# Altium schematic symbol library LaserPCB.SCHLIB: 75 symbols
Pins are listed as number, name and electrical type; pins without a type are passive.

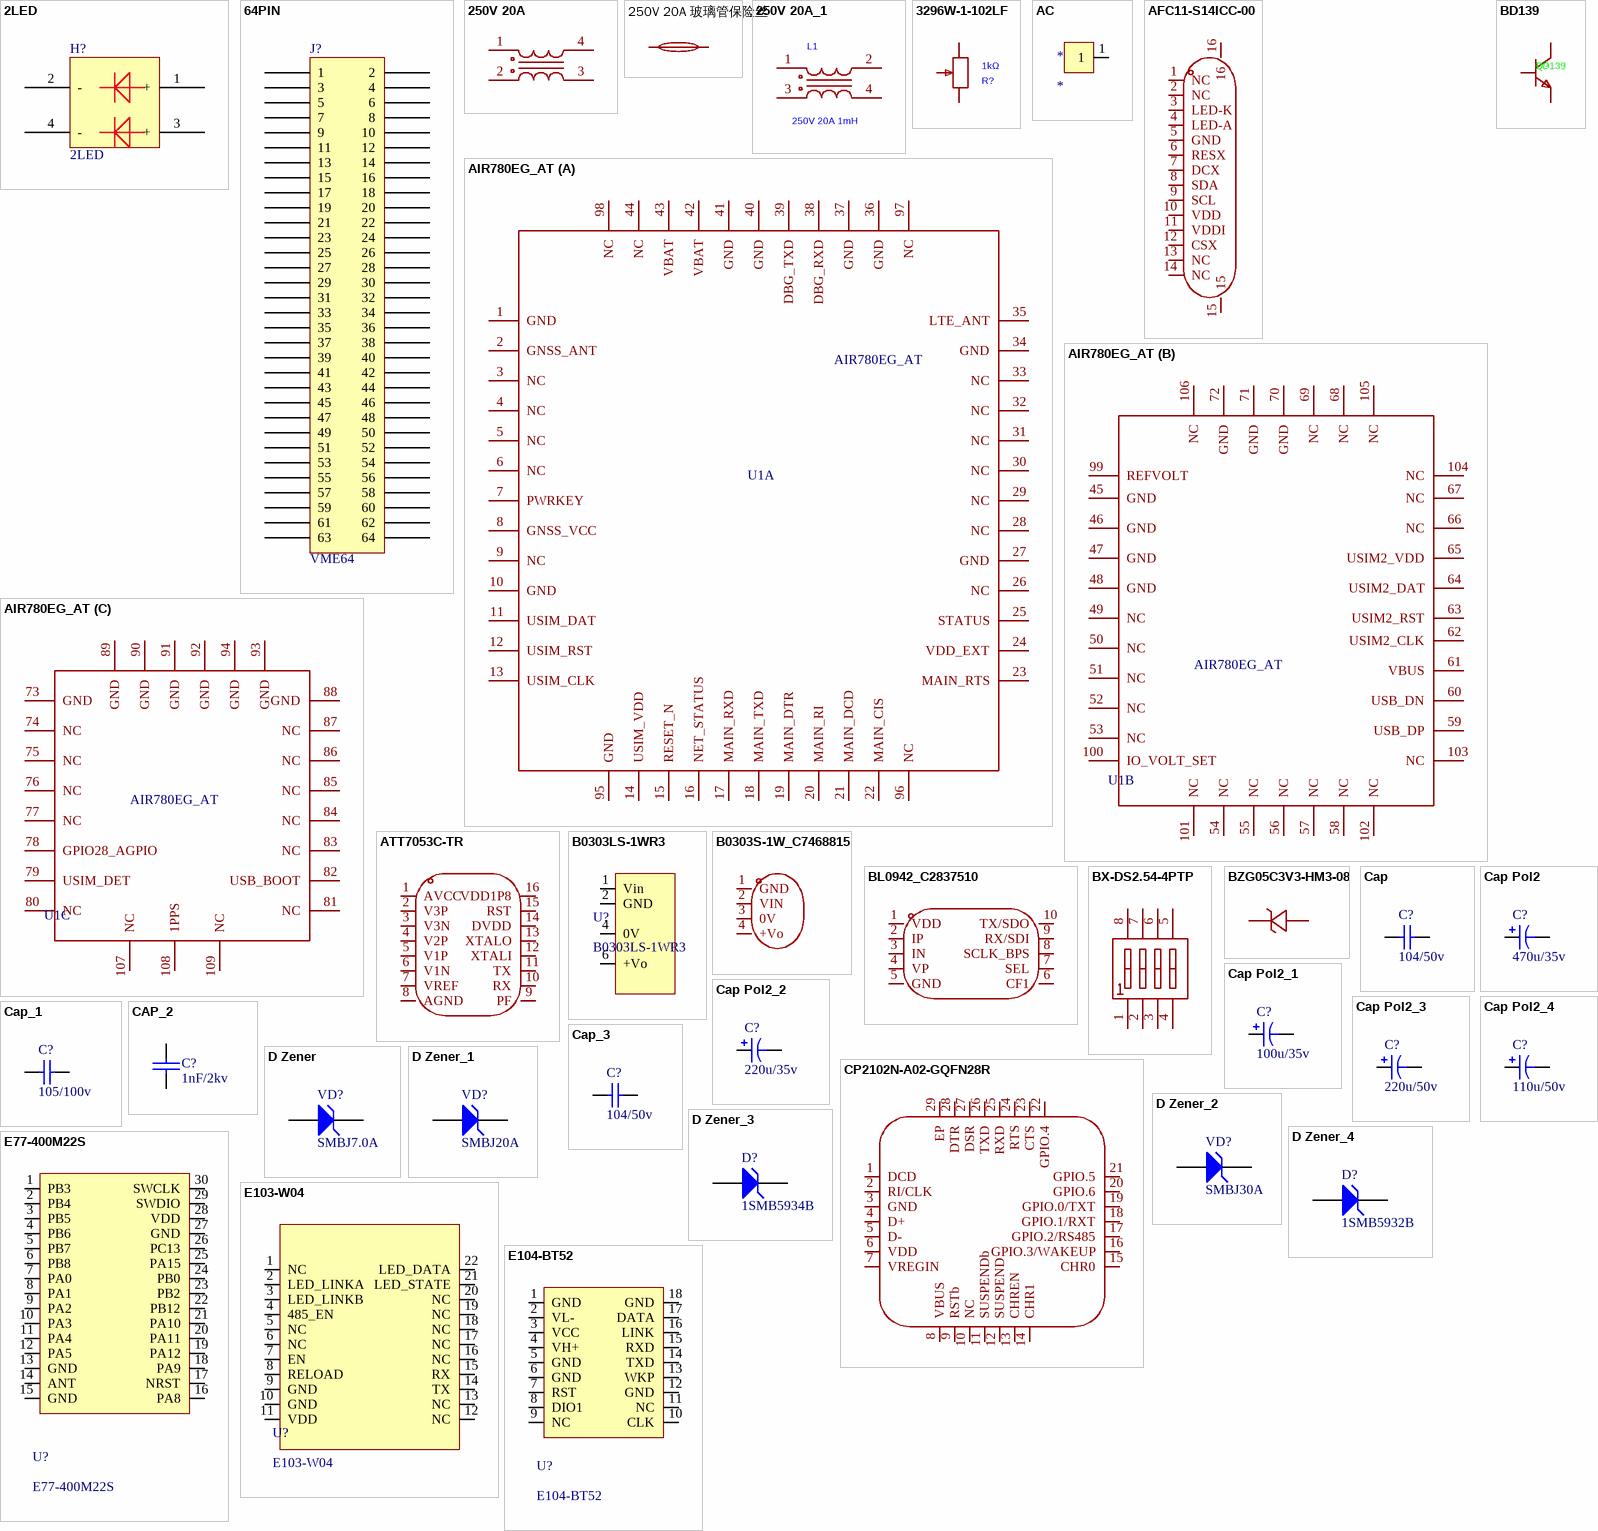
[diagram p0: symbols 2LED to E104-BT52]

## 2LED
designator H?
footprint 2LED
pins: 1 +, 2 -, 3 +, 4 -

## 64PIN
designator J?, comment VME64
footprint 9001-32641C
footprint 9001-32641C
pins: 1, 2, 3, 4, 5, 6, 7, 8, 9, 10, 11, 12, 13, 14, 15, 16, 17, 18, 19, 20, 21, 22, 23, 24, 25, 26, 27, 28, 29, 30, 31, 32, 33, 34, 35, 36, 37, 38, 39, 40, 41, 42, 43, 44, 45, 46, 47, 48, 49, 50, 51, 52, 53, 54, 55, 56, 57, 58, 59, 60, 61, 62, 63, 64
2 alternate drawings of the same symbol

## 250V 20A
designator L?, comment 250V 20A 1mH  (value not drawn)
Manufacturer: SXN(顺翔诺); Symbol: SMCM7060-102T; Add into BOM: yes; Number of Lines: 2; Current Rating: 3A; Voltage Rating - DC: 125V; Impedance @ Frequency: 1.02kΩ; DC Resistance(DCR): 17mΩ; Device: SMCM7060-102T; LCSC Part Name: 两路 贴片共模滤波器 阻抗1.02kΩ@100MHz; Supplier Part: C381615; Manufacturer Part: SMCM7060-102T; Supplier Footprint: SMD,7x6mm; JLCPCB Part Class: Extended Part; Datasheet: https://atta.szlcsc.com/upload/public/pdf/source/20210810/7E4749E6D81F48CB84A49D0AD88B3955.pdf; Supplier: LCSC; Convert to PCB: yes; Operating Temperature: -40℃~+125℃
footprint FILTER-SMD_4P-L7.0-W6.0-TL_SMCM7060
3D model FILTER-SMD_4P-L7.0-W6.0-H3.5
pins: 1, 2, 3, 4

## 250V 20A 玻璃管保险丝
designator F?  (value not drawn)
Manufacturer: xcfuse(旭程); Symbol: 250V 20A Glass tube fuse; Add into BOM: yes; Device: 250V 20A 玻璃管保险丝; LCSC Part Name: 玻璃管保险丝; Supplier Part: C13567; Manufacturer Part: 250V 20A 玻璃管保险丝; Supplier Footprint: D5.2xL20mm; JLCPCB Part Class: Extended Part; Datasheet: https://atta.szlcsc.com/upload/public/pdf/source/20210128/C2689798_830C652F57A356A8294054B84813D395.pdf; Supplier: LCSC; Convert to PCB: yes; Type: 玻璃管保险丝; Current Rating: 20A
footprint FUSE-SMD_5-20MM
3D model FUSE-SMD_D5.0-L20.0
pins: 1, 2

## 250V 20A_1
designator L1, comment 250V 20A 1mH
Manufacturer: SXN(顺翔诺); Symbol: SMCM7060-102T; Add into BOM: yes; Number of Lines: 2; Current Rating: 3A; Voltage Rating - DC: 125V; Impedance @ Frequency: 1.02kΩ; DC Resistance(DCR): 17mΩ; Device: SMCM7060-102T; LCSC Part Name: 两路 贴片共模滤波器 阻抗1.02kΩ@100MHz; Supplier Part: C381615; Manufacturer Part: SMCM7060-102T; Supplier Footprint: SMD,7x6mm; JLCPCB Part Class: Extended Part; Datasheet: https://atta.szlcsc.com/upload/public/pdf/source/20210810/7E4749E6D81F48CB84A49D0AD88B3955.pdf; Supplier: LCSC; Convert to PCB: yes; Operating Temperature: -40℃~+125℃
footprint FILTER-SMD_4P-L7.0-W6.0-TL_SMCM7060
3D model FILTER-SMD_4P-L7.0-W6.0-H3.5
pins: 1, 2, 3, 4

## 3296W-1-102LF
designator R?, comment 1kΩ
Manufacturer: BOURNS; Symbol: 3296W-1-102LF; Add into BOM: yes; Tolerance: ±10%; Power(Watts): 500mW; Temperature Coefficient: ±100ppm/℃; Number of Turns: 25; Device: 3296W-1-102LF; LCSC Part Name: 1kΩ ±10%; Supplier Part: C57089; Manufacturer Part: 3296W-1-102LF; Supplier Footprint: SIP-3P,9.5x4.8mm; JLCPCB Part Class: Extended Part; Datasheet: https://item.szlcsc.com/datasheet/3296W-1-102LF/58119.html; Supplier: LCSC; Convert to PCB: yes; Value: 1kΩ
footprint RES-ADJ-TH_3296W
3D model RES-ADJ-TH_3296W
pins: 1, 2, 3

## AC
designator *
footprint AC
pins: 1

## AFC11-S14ICC-00
designator LCD?, comment EP180ST019-D  (value not drawn)
Manufacturer: JS(钜硕电子); Symbol: FPC 0.5MM 14P Vertical mounting type H2.0mm; Device: AFC11-S14ICC-00; Add into BOM: yes; Locking Feature: 抽屉式; Number of Contacts: 14P; Pitch: 0.5mm; FFC, FCB Thickness: 0.3mm; LCSC Part Name: 间距:0.5mm P数:14P 抽屉式 单侧触点/垂直; Supplier Part: C11070; Manufacturer Part: AFC11-S14ICC-00; Supplier Footprint: SMD,P=0.5mm; JLCPCB Part Class: Extended Part; Datasheet: https://atta.szlcsc.com/upload/public/pdf/source/20191211/C466537_F6F2472ADACFFA77E875AFE9DAB8E0AD.pdf; Supplier: LCSC; Convert to PCB: yes; Contact Type: 单侧触点/垂直; Mounting Type: 立贴; Height Above Board: 4.4mm
footprint FPC-SMD_14P-P1.00-AFC11-S14ICC-00
3D model FPC-SMD_14P-L12.6-W3.0-H4.4-P1.00-AFC11-S14ICC-00
pins: 1 NC, 2 NC, 3 LED-K, 4 LED-A, 5 GND, 6 RESX, 7 DCX, 8 SDA, 9 SCL, 10 VDD, 11 VDDI, 12 CSX, 13 NC, 14 NC, 15, 16

## AIR780EG_AT
designator U1
Add into BOM: yes; Symbol: AIR780EG_AT; Device: AIR780EG_AT; Convert to PCB: yes; Origin Footprint: AIR780E; PART-TYPE: AIR780EG_AT
part A pins: 1 GND, 2 GNSS_ANT, 3 NC, 4 NC, 5 NC, 6 NC, 7 PWRKEY, 8 GNSS_VCC, 9 NC, 10 GND, 11 USIM_DAT, 12 USIM_RST, 13 USIM_CLK, 14 USIM_VDD, 15 RESET_N, 16 NET_STATUS, 17 MAIN_RXD, 18 MAIN_TXD, 19 MAIN_DTR, 20 MAIN_RI, 21 MAIN_DCD, 22 MAIN_CIS, 23 MAIN_RTS, 24 VDD_EXT, 25 STATUS, 26 NC, 27 GND, 28 NC, 29 NC, 30 NC, 31 NC, 32 NC, 33 NC, 34 GND, 35 LTE_ANT, 36 GND, 37 GND, 38 DBG_RXD, 39 DBG_TXD, 40 GND, 41 GND, 42 VBAT, 43 VBAT, 44 NC, 95 GND, 96 NC, 97 NC, 98 NC
part B pins: 45 GND, 46 GND, 47 GND, 48 GND, 49 NC, 50 NC, 51 NC, 52 NC, 53 NC, 54 NC, 55 NC, 56 NC, 57 NC, 58 NC, 59 USB_DP, 60 USB_DN, 61 VBUS, 62 USIM2_CLK, 63 USIM2_RST, 64 USIM2_DAT, 65 USIM2_VDD, 66 NC, 67 NC, 68 NC, 69 NC, 70 GND, 71 GND, 72 GND, 99 REFVOLT, 100 IO_VOLT_SET, 101 NC, 102 NC, 103 NC, 104 NC, 105 NC, 106 NC
part C pins: 73 GND, 74 NC, 75 NC, 76 NC, 77 NC, 78 GPIO28_AGPIO, 79 USIM_DET, 80 NC, 81 NC, 82 USB_BOOT, 83 NC, 84 NC, 85 NC, 86 NC, 87 NC, 88 GND, 89 GND, 90 GND, 91 GND, 92 GND, 93 GND, 94 GND, 107 NC, 108 1PPS, 109 NC

## ATT7053C-TR
designator U?, comment HT7017  (value not drawn)
Manufacturer: 钜泉光电; Symbol: ATT7053C-TR; Add into BOM: yes; Device: ATT7053C-TR; LCSC Part Name: ATT7053C-TR; Supplier Part: C696259; Manufacturer Part: ATT7053C-TR; Supplier Footprint: SSOP-24-208mil; JLCPCB Part Class: Extended Part; Datasheet: https://atta.szlcsc.com/upload/public/pdf/source/20200708/C696259_067A6FB07C8AFB8ABB9A49D3E263886A.pdf; Supplier: LCSC; Convert to PCB: yes
footprint SOP-16_150mil
pins: 1 AVCC, 2 V3P, 3 V3N, 4 V2P, 5 V1P, 6 V1N, 7 VREF, 8 AGND, 9 PF, 10 RX, 11 TX, 12 XTALI, 13 XTALO, 14 DVDD, 15 RST, 16 VDD1P8

## B0303LS-1WR3
designator U?
footprint B_LS-1WR3
pins: 1 Vin, 2 GND, 4 0V, 6 +Vo

## B0303S-1W_C7468815
designator U?, comment B0303S-1W  (value not drawn)
Manufacturer: YLPTEC(易川); Symbol: B0303S-1W_C7468815; Add into BOM: yes; Number of channel: 1; Power: 1W; input voltage (Vdc): 2.97V~3.63V; Conversion Efficiency: 72%; Output Voltage: 3.3V; Output Current (Max): 303mA; Maximum Capacitive Load: 200uF; Insulated Voltage: 1500V; Protective function: 短路保护; Device: B0303S-1W_C7468815; LCSC Part Name: B0303S-1W; Supplier Part: C7468815; Manufacturer Part: B0303S-1W; Supplier Footprint: 插件; JLCPCB Part Class: Extended Part; Datasheet: https://atta.szlcsc.com/upload/public/pdf/source/20230721/4B40B36B6E26E57F58B00B4F7CED3B43.pdf; Supplier: LCSC; Convert to PCB: yes; TYPE: -
footprint PWRM-TH_YLPTEC_BXXXXS-1WR3
3D model PWRM-TH_YLPTEC_BXXXXS-1WR3
pins: 1 GND, 2 VIN, 3 0V, 4 +Vo

## BD139
designator Q?
Manufacturer: ST(意法半导体); Add into BOM: yes; type: NPN; Current - Collector(Ic): 1.5A; Collector - Emitter Voltage VCEO: 80V; Pd - Power Dissipation: 12.5W; DC Current Gain: 63@150mA,2V; Current - Collector Cutoff: 10uA; Vce Saturation(VCE(sat)): 500mV@0.5A,0.05A; Emitter-Base Voltage(Vebo): 5V; Number: 1个NPN; Symbol: BD139; Device: BD139; LCSC Part Name: NPN 电流:1.5A 电压:80V; Supplier Part: C27866; Manufacturer Part: BD139; Supplier Footprint: TO-126; JLCPCB Part Class: Extended Part; Datasheet: https://item.szlcsc.com/datasheet/BD139/28616.html; Supplier: LCSC; Convert to PCB: yes; Operating Temperature: -65℃~+150℃
footprint TO-126_L7.5-W2.5-P2.3-B
3D model TO-126_L7.5-W2.5-H10.8-P2.29
pins: 1 B, 2 C, 3 E

## BL0942_C2837510
designator U?, comment BL0942  (value not drawn)
Manufacturer: BL(上海贝岭); Device: BL0942_C2837510; Add into BOM: yes; Symbol: BL0942; LCSC Part Name: BL0942内置时钟免校准计量芯片; Supplier Part: C2837510; Manufacturer Part: BL0942; Supplier Footprint: SSOP-10-150mil; JLCPCB Part Class: Extended Part; Datasheet: https://atta.szlcsc.com/upload/public/pdf/source/20220627/BFAD44701CA6DE9A8853C5A4834B6884.pdf; Supplier: LCSC; Convert to PCB: yes
footprint SSOP-10_L4.9-W3.9-P1.00-LS6.0-BL
3D model SSOP-10_L4.9-W3.9-H1.5-LS6.0-P1.00
pins: 1 VDD, 2 IP, 3 IN, 4 VP, 5 GND, 6 CF1, 7 SEL, 8 SCLK_BPS, 9 RX/SDI, 10 TX/SDO

## BX-DS2.54-4PTP
designator U?  (value not drawn)
Manufacturer: Bossie(博锡); Add into BOM: yes; Circuit: 单刀单掷; Number of Positions: 4位; Current Rating: 25mA; Voltage Rating: 24V; Operating Life: 3千次; Symbol: BX-DS2.54-4PTP; Device: BX-DS2.54-4PTP; LCSC Part Name: DSIC 2.54贴片高推4位 间距2.54mm 平拨 凹槽式 4位拨码开关; Supplier Part: C18078244; Manufacturer Part: BX-DS2.54-4PTP; Supplier Footprint: SMD,P=2.54mm; JLCPCB Part Class: Extended Part; Datasheet: https://item.szlcsc.com/datasheet/BX-DS2.54-4PTP/19218645.html; Supplier: LCSC; Convert to PCB: yes; Type: 平拨,凹槽式; Termination Style: -; Lead Pitch: 2.54mm; Operating Temperature: -30℃~+85℃; Color: 黑色
footprint SW-SMD_8P-L10.3-W6.2-P2.54-LS9.5-BL
3D model SW-SMD_8P-L10.3-W6.2-P2.54-LS9.5-BL
pins: 1, 2, 3, 4, 5, 6, 7, 8

## BZG05C3V3-HM3-08
designator D?  (value not drawn)
Manufacturer: VISHAY(威世); Add into BOM: yes; Zener Voltage (Nom): 3.3V; Reverse Leakage Current (Ir): 40uA@1V; Power Dissipation: 1.25W; Zener Impedance (Zzt): 20Ω; Symbol: BZG05C3V3-HM3-08; Device: BZG05C3V3-HM3-08; LCSC Part Name: BZG05C3V3-HM3-08; Supplier Part: C5453935; Manufacturer Part: BZG05C3V3-HM3-08; Supplier Footprint: DO-214AC(SMA); JLCPCB Part Class: Extended Part; Datasheet: https://atta.szlcsc.com/upload/public/pdf/source/20231211/9C5D23EE7A4B1E615A01AB6E23B6A6DA.pdf; Supplier: LCSC; Convert to PCB: yes
footprint SMA_L4.3-W2.6-LS5.2-RD
3D model SMA_L4.3-W2.6-LS5.2-RD
pins: 1 K, 2 A

## Cap
designator C?, comment 104/50v
Capacitor; Published: 8-Jun-2000; LatestRevisionDate: 17-Jul-2002; LatestRevisionNote: Re-released for DXP Platform.; PackageReference: RAD-0.3; Publisher: Altium Limited; Value: 104/50v
footprint 0805
footprint VP32-3.2 (Capacitor, Ceramic, Thru-Hole, Dipped Radial; Body 5.1 x 3.2 mm (WxT) Pin Spacing 2.54 mm (typ))
footprint VP45-3.2 (Capacitor, Ceramic, Thru-Hole, Dipped Radial; Body 7.8 x 3.2 mm (WxT) Pin Spacing 5.08 mm (typ))
simulation model CAP (Capacitor)
signal-integrity model Cap
footprint 0805_C
pins: 1, 2

## Cap Pol2
designator C?, comment 470U/35v
Polarized Capacitor (Axial); Published: 8-Jun-2000; LatestRevisionDate: 17-Jul-2002; LatestRevisionNote: Re-released for DXP Platform.; PackageReference: POLAR0.8; Publisher: Altium Limited; Value: 470u/35v
footprint CAP-TH_BD10.0
pins: 1, 2
1 alternate drawing of the same symbol

## Cap Pol2_1
designator C?, comment 100u/35v
Polarized Capacitor (Axial); Published: 8-Jun-2000; LatestRevisionDate: 17-Jul-2002; LatestRevisionNote: Re-released for DXP Platform.; PackageReference: POLAR0.8; Publisher: Altium Limited; Value: 100u/35v
footprint RB.2/.5
footprint CAPPA14.05-10.5x6.3 (Capacitor, Axial, Polarised; Body 10.5 x 6.3 mm (LxDia. max), Lead Dia. 0.6 mm (typ))
footprint CAPPA23.6-18.5x8.5 (Capacitor, Axial, Polarised; Body 18.5 x 8.5 mm (LxDia. max), Lead Dia. 0.8 mm (typ))
footprint CAPPA31.6-26.5x12.5 (Capacitor, Axial, Polarised; Body 26.5 x 12.5 mm (LxDia. max), Lead Dia. 0.8 mm (typ))
footprint CAPPA35.6-30.5x18.5 (Capacitor, Axial, Polarised; Body 30.5 x 18.5 mm (LxDia. max), Lead Dia. 0.8 mm (typ))
footprint CAPPA46.1-41x21.5 (Capacitor, Axial, Polarised; Body 41 x 21.5 mm (LxDia. max), Lead Dia. 0.8 mm (typ))
simulation model CAP (Capacitor)
signal-integrity model Cap Pol
footprint CAP-TH_BD6.3
pins: 1, 2
1 alternate drawing of the same symbol

## Cap Pol2_2
designator C?, comment 220u/35v
Polarized Capacitor (Axial); Published: 8-Jun-2000; LatestRevisionDate: 17-Jul-2002; LatestRevisionNote: Re-released for DXP Platform.; PackageReference: POLAR0.8; Publisher: Altium Limited; Value: 220u/35v
footprint CAP-TH_BD10.0
pins: 1, 2
1 alternate drawing of the same symbol

## Cap Pol2_3
designator C?, comment 220u/50v
Polarized Capacitor (Axial); Published: 8-Jun-2000; LatestRevisionDate: 17-Jul-2002; LatestRevisionNote: Re-released for DXP Platform.; PackageReference: POLAR0.8; Publisher: Altium Limited; Value: 220u/50v
footprint CAP-TH_BD10.0
pins: 1, 2
1 alternate drawing of the same symbol

## Cap Pol2_4
designator C?, comment 110u/50v
Polarized Capacitor (Axial); Published: 8-Jun-2000; LatestRevisionDate: 17-Jul-2002; LatestRevisionNote: Re-released for DXP Platform.; PackageReference: POLAR0.8; Publisher: Altium Limited; Value: 110u/50v
footprint CAP-TH_BD10.0
pins: 1, 2
1 alternate drawing of the same symbol

## Cap_1
designator C?, comment 105/100v
Capacitor; Published: 8-Jun-2000; LatestRevisionDate: 17-Jul-2002; LatestRevisionNote: Re-released for DXP Platform.; PackageReference: RAD-0.3; Publisher: Altium Limited; Value: 105/100v
footprint 0805
footprint VP32-3.2 (Capacitor, Ceramic, Thru-Hole, Dipped Radial; Body 5.1 x 3.2 mm (WxT) Pin Spacing 2.54 mm (typ))
footprint VP45-3.2 (Capacitor, Ceramic, Thru-Hole, Dipped Radial; Body 7.8 x 3.2 mm (WxT) Pin Spacing 5.08 mm (typ))
simulation model CAP (Capacitor)
signal-integrity model Cap
footprint 1210 (贴片元件)
pins: 1, 2

## CAP_2
designator C?, comment 1nF/2kv
Capacitor
footprint C1812
pins: 1, 2

## Cap_3
designator C?, comment 104/50v
Capacitor; Published: 8-Jun-2000; LatestRevisionDate: 17-Jul-2002; LatestRevisionNote: Re-released for DXP Platform.; PackageReference: RAD-0.3; Publisher: Altium Limited
footprint 0805
footprint VP32-3.2 (Capacitor, Ceramic, Thru-Hole, Dipped Radial; Body 5.1 x 3.2 mm (WxT) Pin Spacing 2.54 mm (typ))
footprint VP45-3.2 (Capacitor, Ceramic, Thru-Hole, Dipped Radial; Body 7.8 x 3.2 mm (WxT) Pin Spacing 5.08 mm (typ))
simulation model CAP (Capacitor)
signal-integrity model Cap
footprint 0805_C
pins: 1, 2

## CP2102N-A02-GQFN28R
designator U?  (value not drawn)
Manufacturer: SKYWORKS/SILICON LABS(芯科); Add into BOM: yes; Applications Function: USB转UART; USB Protocol: USB 2.0; Voltage - Supply: 3V~3.6V; Current - Supply: 9.5mA; Supply Current (Iq): 1.3uA; Symbol: CP2102N-A02-GQFN28R; Device: CP2102N-A02-GQFN28R; LCSC Part Name: CP2102N-A02-GQFN28R; Supplier Part: C964632; Manufacturer Part: CP2102N-A02-GQFN28R; Supplier Footprint: QFN-28-EP(5x5); JLCPCB Part Class: Extended Part; Datasheet: https://item.szlcsc.com/datasheet/CP2102N-A02-GQFN28R/1049893.html; Supplier: LCSC; Convert to PCB: yes; Operating Temperature: -40℃~+85℃@(Ta)
footprint QFN-28_L5.0-W5.0-P0.50-TL-EP3.3
3D model QFN-28_L5.0-W5.0-H0.9-P0.50
pins: 1 DCD, 2 RI/CLK, 3 GND, 4 D+, 5 D-, 6 VDD, 7 VREGIN, 8 VBUS, 9 RSTb, 10 NC, 11 SUSPENDb, 12 SUSPEND, 13 CHREN, 14 CHR1, 15 CHR0, 16 GPIO.3/WAKEUP, 17 GPIO.2/RS485, 18 GPIO.1/RXT, 19 GPIO.0/TXT, 20 GPIO.6, 21 GPIO.5, 22 GPIO.4, 23 CTS, 24 RTS, 25 RXD, 26 TXD, 27 DSR, 28 DTR, 29 EP

## D Zener
designator VD?, comment SMBJ7.0A
Zener Diode; Published: 8-Jun-2000; LatestRevisionDate: 17-Jul-2002; LatestRevisionNote: Re-released for DXP Platform.; PackageReference: DIODE-0.7; Publisher: Altium Limited
footprint DIODE-0.7 (Diode, Thru-Hole; 2 Leads; 0.7 in Pin Spacing)
simulation model ZENER (Diode)
signal-integrity model D Zener
footprint SMB
footprint SMB(DO-214AA)
pins: 1 A, 2 K

## D Zener_1
designator VD?, comment SMBJ20A
Zener Diode; Published: 8-Jun-2000; LatestRevisionDate: 17-Jul-2002; LatestRevisionNote: Re-released for DXP Platform.; PackageReference: DIODE-0.7; Publisher: Altium Limited
footprint DIODE-0.7 (Diode, Thru-Hole; 2 Leads; 0.7 in Pin Spacing)
simulation model ZENER (Diode)
signal-integrity model D Zener
footprint SMB
footprint SMB(DO-214AA)
pins: 1 A, 2 K

## D Zener_2
designator VD?, comment SMBJ30A
Zener Diode; Published: 8-Jun-2000; LatestRevisionDate: 17-Jul-2002; LatestRevisionNote: Re-released for DXP Platform.; PackageReference: DIODE-0.7; Publisher: Altium Limited
footprint DIODE-0.7 (Diode, Thru-Hole; 2 Leads; 0.7 in Pin Spacing)
simulation model ZENER (Diode)
signal-integrity model D Zener
footprint SMB
footprint SMB(DO-214AA)
pins: 1 A, 2 K

## D Zener_3
designator D?, comment 1SMB5934B
Zener Diode; Published: 8-Jun-2000; LatestRevisionDate: 17-Jul-2002; LatestRevisionNote: Re-released for DXP Platform.; PackageReference: DIODE-0.7; Publisher: Altium Limited; PackageDescription: Diode, Thru-Hole; 2 Leads; 0.7 in Pin Spacing
footprint DIODE-0.7 (Diode, Thru-Hole; 2 Leads; 0.7 in Pin Spacing)
simulation model ZENER (Diode)
signal-integrity model D Zener
footprint SMB(DO-214AA)_S1
pins: 1 A, 2 K

## D Zener_4
designator D?, comment 1SMB5932B
Zener Diode; Published: 8-Jun-2000; LatestRevisionDate: 17-Jul-2002; LatestRevisionNote: Re-released for DXP Platform.; PackageReference: DIODE-0.7; Publisher: Altium Limited; PackageDescription: Diode, Thru-Hole; 2 Leads; 0.7 in Pin Spacing
footprint DIODE-0.7 (Diode, Thru-Hole; 2 Leads; 0.7 in Pin Spacing)
simulation model ZENER (Diode)
signal-integrity model D Zener
footprint SMB(DO-214AA)_S1
pins: 1 A, 2 K

## E77-400M22S
designator U?
footprint E77-400M22S (20mm*14mm*2.8mm-S)
pins: 1 PB3, 2 PB4, 3 PB5, 4 PB6, 5 PB7, 6 PB8, 7 PA0, 8 PA1, 9 PA2, 10 PA3, 11 PA4, 12 PA5, 13 GND, 14 ANT, 15 GND, 16 PA8, 17 NRST, 18 PA9, 19 PA12, 20 PA11, 21 PA10, 22 PB12, 23 PB2, 24 PB0, 25 PA15, 26 PC13, 27 GND, 28 VDD, 29 SWDIO, 30 SWCLK

## E103-W04
designator U?
footprint E103-W04
pins: 1 NC, 2 LED_LINKA, 3 LED_LINKB, 4 485_EN, 5 NC, 6 NC, 7 EN, 8 RELOAD, 9 GND, 10 GND, 11 VDD, 12 NC, 13 NC, 14 TX, 15 RX, 16 NC, 17 NC, 18 NC, 19 NC, 20 NC, 21 LED_STATE, 22 LED_DATA

## E104-BT52
designator U?
footprint E104-BT52
pins: 1 GND, 2 VL-, 3 VCC, 4 VH+, 5 GND, 6 GND, 7 RST, 8 DIO1, 9 NC, 10 CLK, 11 NC, 12 GND, 13 WKP, 14 TXD, 15 RXD, 16 LINK, 17 DATA, 18 GND

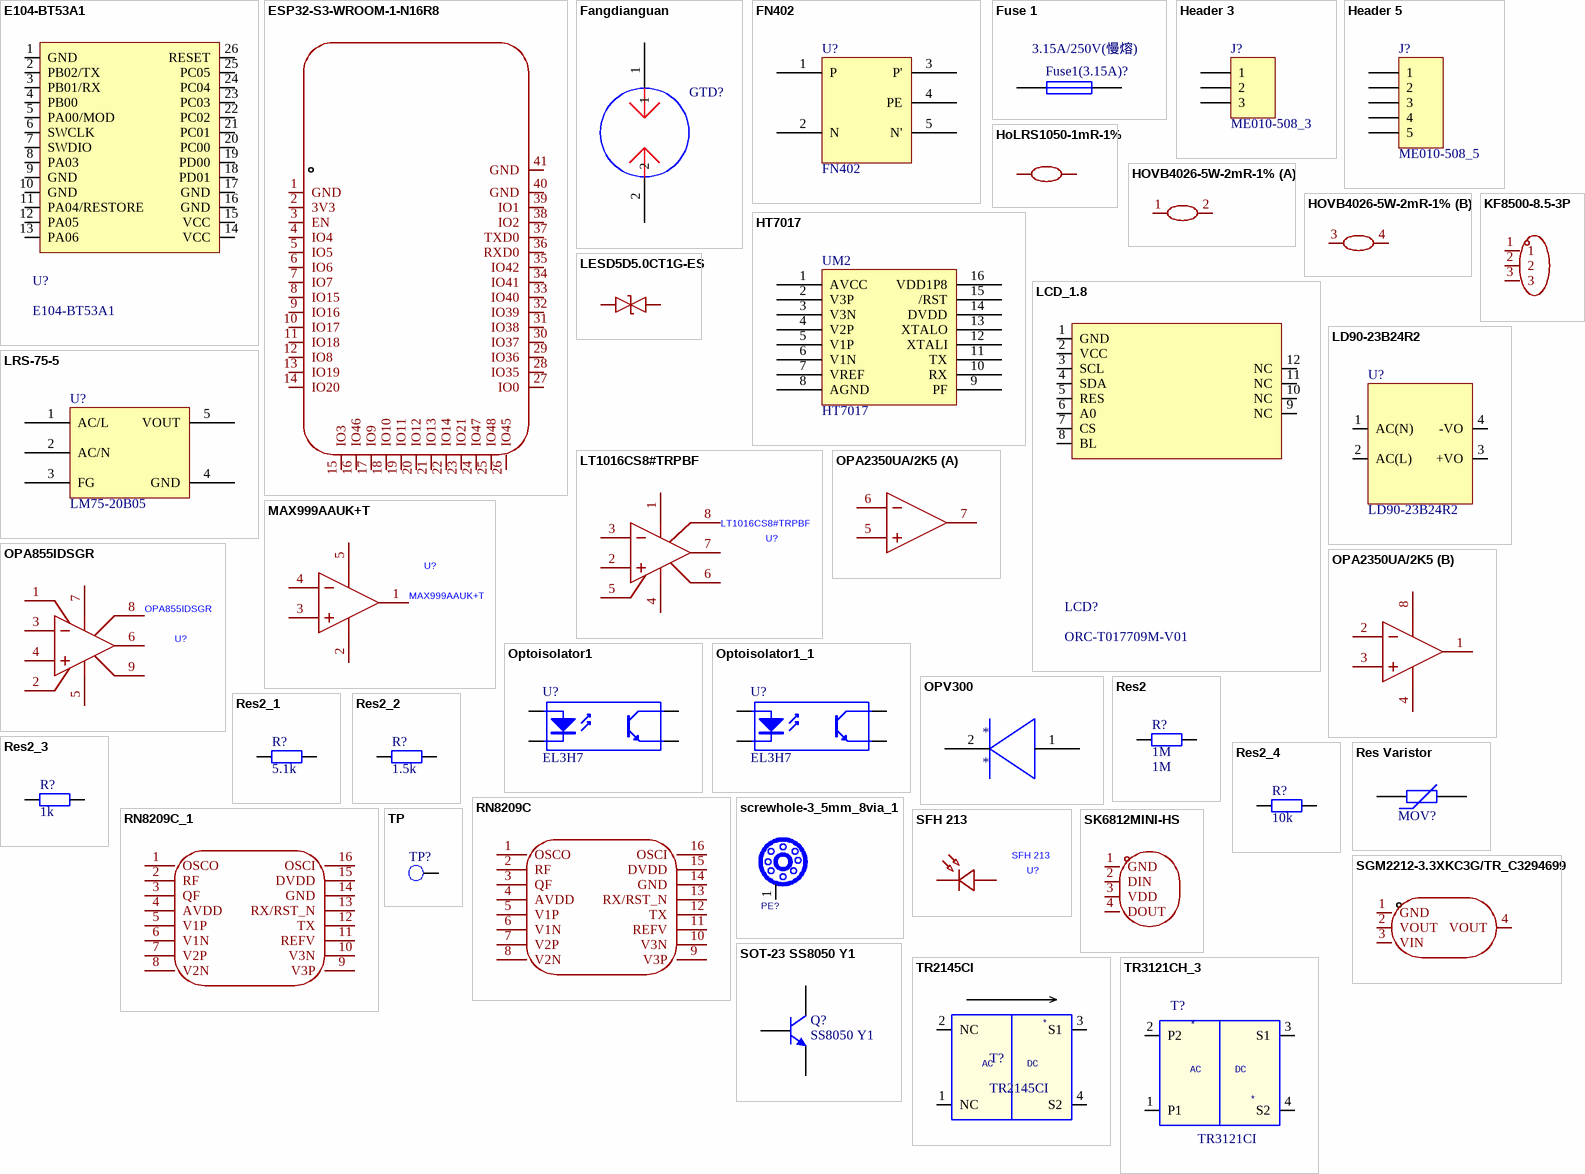
[diagram p1: symbols E104-BT53A1 to TR3121CH_3]

## E104-BT53A1
designator U?
footprint E104-BT53A1
pins: 1 GND, 2 PB02/TX, 3 PB01/RX, 4 PB00, 5 PA00/MOD, 6 SWCLK, 7 SWDIO, 8 PA03, 9 GND, 10 GND, 11 PA04/RESTORE, 12 PA05, 13 PA06, 14 VCC, 15 VCC, 16 GND, 17 GND, 18 PD01, 19 PD00, 20 PC00, 21 PC01, 22 PC02, 23 PC03, 24 PC04, 25 PC05, 26 RESET

## ESP32-S3-WROOM-1-N16R8
designator U?  (value not drawn)
Manufacturer: ESPRESSIF(乐鑫); Symbol: ESP32-S3-WROOM-1(N16R8); Add into BOM: yes; Device: ESP32-S3-WROOM-1-N16R8; LCSC Part Name: 通用型Wi-Fi+低功耗蓝牙MCU模组; Supplier Part: C2913202; Manufacturer Part: ESP32-S3-WROOM-1-N16R8; Supplier Footprint: SMD,18x25.5mm; JLCPCB Part Class: Extended Part; Datasheet: https://item.szlcsc.com/datasheet/ESP32-S3-WROOM-1-N16R8/3198300.html; Supplier: LCSC; Convert to PCB: yes
footprint WIRELM-SMD_ESP32-S3-WROOM-1
3D model WIRELM-SMD_ESP32-S3-WROOM-1
pins: 1 GND, 2 3V3, 3 EN, 4 IO4, 5 IO5, 6 IO6, 7 IO7, 8 IO15, 9 IO16, 10 IO17, 11 IO18, 12 IO8, 13 IO19, 14 IO20, 15 IO3, 16 IO46, 17 IO9, 18 IO10, 19 IO11, 20 IO12, 21 IO13, 22 IO14, 23 IO21, 24 IO47, 25 IO48, 26 IO45, 27 IO0, 28 IO35, 29 IO36, 30 IO37, 31 IO38, 32 IO39, 33 IO40, 34 IO41, 35 IO42, 36 RXD0, 37 TXD0, 38 IO2, 39 IO1, 40 GND, 41 GND

## Fangdianguan
designator GTD?, comment B5G3600  (value not drawn)
footprint B5G3600
pins: 1, 2

## FN402
designator U?
footprint FN402
footprint FN402
pins: 1 P, 2 N, 3 P', 4 PE, 5 N'

## Fuse 1
designator Fuse1(3.15A)?, comment 3.15A/250V(慢熔)
Fuse; Published: 8-Jun-2000; LatestRevisionDate: 17-Jul-2002; LatestRevisionNote: Re-released for DXP Platform.; PackageReference: PIN-W2/E2.8; Publisher: Altium Limited
footprint Fuse(3.15A)
simulation model FUSE (Spice Subcircuit)
footprint FUSE-SMD
pins: 1, 2

## Header 3
designator J?, comment ME010-508_3
Header, 3-Pin; LatestRevisionDate: 17-Jul-2002; LatestRevisionNote: Re-released for DXP Platform.; Publisher: Altium Limited
footprint ME010-508-3
signal-integrity model Connector
pins: 1, 2, 3

## Header 5
designator J?, comment ME010-508_5
Header, 5-Pin; LatestRevisionDate: 17-Jul-2002; LatestRevisionNote: Re-released for DXP Platform.; Publisher: Altium Limited
footprint ME050-508-5
signal-integrity model Connector
pins: 1, 2, 3, 4, 5

## HoLRS1050-1mR-1%
designator R?, comment 1mΩ  (value not drawn)
Manufacturer: Milliohm(毫欧); Symbol: HOLRS1050-1MR-1%; Add into BOM: yes; Tolerance: ±1%; Power(Watts): 5W; Temperature Coefficient: 20ppm/℃~+75ppm/℃; Mounting Sytle: 贴片; Device: HoLRS1050-1mR-1%; LCSC Part Name: 1mΩ ±1% 5W; Supplier Part: C481472; Manufacturer Part: HoLRS1050-1mR-1%; Supplier Footprint: SMD,5.3x10mm; JLCPCB Part Class: Extended Part; Datasheet: https://atta.szlcsc.com/upload/public/pdf/source/20200107/C481477_0535909D46DC90FF42335FCEF8B7F91B.pdf; Supplier: LCSC; Convert to PCB: yes; Type: 采样电阻; Value: 1mΩ
footprint R3920
3D model R3920
pins: 1, 2

## HOVB4026-5W-2mR-1%
designator R?, comment 2mΩ  (value not drawn)
Manufacturer: Milliohm(毫欧); Symbol: HOVB4026-5W-2MR-1%; Add into BOM: yes; Tolerance: ±1%; Power(Watts): 5W; Mounting Sytle: 贴片; Device: HOVB4026-5W-2mR-1%; LCSC Part Name: 2mΩ ±1% 5W; Supplier Part: C481536; Manufacturer Part: HOVB4026-5W-2mR-1%; Supplier Footprint: 4026; JLCPCB Part Class: Extended Part; Datasheet: https://atta.szlcsc.com/upload/public/pdf/source/20200107/C481538_F795F379F6874DFC5646D18673C26E99.pdf; Supplier: LCSC; Convert to PCB: yes; Type: 采样电阻; Value: 2mΩ
footprint RES-SMD_4P-L10.8-W6.7
3D model RES-SMD_4P-L10.8-W6.7
part A pins: 1, 2
part B pins: 3, 4

## HT7017
designator UM2
单相计量芯片,4.5~5.5V,5000:1,UART,SSOP16封装; 器件: 贴片芯片; 品牌: 钜泉
footprint SSOP16
pins: 1 AVCC, 2 V3P, 3 V3N, 4 V2P, 5 V1P, 6 V1N, 7 VREF, 8 AGND, 9 PF, 10 RX, 11 TX, 12 XTALI, 13 XTALO, 14 DVDD, 15 /RST, 16 VDD1P8

## KF8500-8.5-3P
designator U?  (value not drawn)
Manufacturer: KEFA(科发); Add into BOM: yes; Barrier Type: 两面; Pitch: 8.5mm; Structure: 1x3P; Pin Location: 边脚; Current Rating (Max): 24A; Voltage Rating (Max): 450V; Wire Gauge - AWG: 12~22; Wire Gauge - mm2: 2.5; Number of PINs Per Row: 3; Symbol: KF8500-8.5-3P; Device: KF8500-8.5-3P; LCSC Part Name: 8.5mm 1x3P 每排P数:3 排数:1 直针 边脚; Supplier Part: C707834; Manufacturer Part: KF8500-8.5-3P; Supplier Footprint: 插件,P=8.5mm; JLCPCB Part Class: Extended Part; Datasheet: https://atta.szlcsc.com/upload/public/pdf/source/20230331/38F39BA915725C9159B9A169281B3E59.pdf; Supplier: LCSC; Convert to PCB: yes; Mounting Style: 直针; Number of Pins: 3P; Number of Rows: 1; Operating Temperature Range: -40℃~+105℃; Color: 黑色
footprint CONN-TH_KF8500-8.5-3P
3D model CONN-TH_KF8500-8.5-3P
pins: 1, 2, 3

## LCD_1.8
designator LCD?, comment ORC-T017709M-V01
pins: 1 GND, 2 VCC, 3 SCL, 4 SDA, 5 RES, 6 A0, 7 CS, 8 BL, 9 NC, 10 NC, 11 NC, 12 NC

## LD90-23B24R2
designator U?
footprint LD90-23B24R2
pins: 1 AC(N), 2 AC(L), 3 +VO, 4 -VO

## LESD5D5.0CT1G-ES
designator U?  (value not drawn)
Manufacturer: ElecSuper(静芯微); Add into BOM: yes; polarity: 双向; Reverse Stand-Off Voltage (Vrwm): 5V; Maximum Clamping Voltage: 10V; Peak Pulse Current (Ipp): 8A; Peak Pulse Power Dissipation (Ppp): 80W; Breakdown Voltage: 5.8V; Reverse Leakage Current (Ir): 1uA; Number of Lines: 单路; Symbol: LESD5D5.0CT1G-ES; Device: LESD5D5.0CT1G-ES; LCSC Part Name: 普容5.0V，单路双向ESD静电防护器件，30kV，CJ：12pF；音频/视频/通讯防护; Supplier Part: C5199159; Manufacturer Part: LESD5D5.0CT1G-ES; Supplier Footprint: SOD523; JLCPCB Part Class: Extended Part; Datasheet: https://atta.szlcsc.com/upload/public/pdf/source/20240905/10776531C4DE5F6ADA679023752259EC.pdf; Supplier: LCSC; Convert to PCB: yes; Operating Temperature: -; Type: ESD
footprint SOD-523_L1.2-W0.8-LS1.6-BI
3D model SOD-523_L1.2-W0.8-LS1.6-BI
pins: 1, 2

## LRS-75-5
designator U?, comment LM75-20B05
footprint LRS-75
pins: 1 AC/L, 2 AC/N, 3 FG, 4 GND, 5 VOUT

## LT1016CS8#TRPBF
designator U?
Manufacturer: ADI(亚德诺); Add into BOM: yes; Vos - Input Offset Voltage: 3mV; Common Mode Rejection Ratio(CMRR): 96dB; Output Type: TTL；CMOS; Symbol: LT1016CS8#TRPBF; Device: LT1016CS8#TRPBF; LCSC Part Name: 超快精准 10ns 比较器; Supplier Part: C661508; Manufacturer Part: LT1016CS8#TRPBF; Supplier Footprint: SO-8; JLCPCB Part Class: Extended Part; Datasheet: https://atta.szlcsc.com/upload/public/pdf/source/20200628/C661960_9C87D689D7FCCFB056AF2682BEAB8545.pdf; Supplier: LCSC; Convert to PCB: yes; Ib - Input Bias Current: -; Input Hysteresis Voltage (Vhys): -; Operating Temperature: 0℃~+70℃
footprint SO-8_L4.9-W3.9-P1.27-LS5.9-BL
3D model SO-8_L4.9-W3.9-H1.5-LS5.9-P1.27
pins: 1 V+, 2 IN+, 3 IN-, 4 V-, 5 LATCH ENABLE, 6 GND, 7 Q OUT, 8 Q OUT#

## MAX999AAUK+T
designator U?
Manufacturer: ADI(亚德诺)/MAXIM(美信); Add into BOM: yes; Number of Channels: 单路; Vos - Input Offset Voltage: 1.5mV; Ib - Input Bias Current: 15uA; Propagation Delay Time: 4.5ns; Input Hysteresis Voltage (Vhys): 3.5mV; Output Type: TTL；CMOS; Rail to Rail: 轨到轨输入,轨到轨输出; Quiescent Current: 5mA; Symbol: MAX999AAUK+T; Device: MAX999AAUK+T; LCSC Part Name: 单/双/四路、超高速、+3V/+5V、超摆幅比较器; Supplier Part: C5328755; Manufacturer Part: MAX999AAUK+T; Supplier Footprint: SOT-23-5; JLCPCB Part Class: Extended Part; Datasheet: https://atta.szlcsc.com/upload/public/pdf/source/20221121/79F30172C76487761A54C458E543BB18.pdf; Supplier: LCSC; Convert to PCB: yes; Common Mode Rejection Ratio(CMRR): -; Operating Temperature: -40℃~+125℃
footprint SOT-23-5_L3.0-W1.7-P0.95-LS2.8-TL
3D model SOT-23-5_L2.9-W1.6-H1.1-LS2.8-P0.95
pins: 1 OUT, 2 GND, 3 IN+, 4 IN-, 5 V+

## OPA855IDSGR
designator U?
Manufacturer: TI(德州仪器); Add into BOM: yes; Number of Channels: 单路; Maximum Power Supply Range (Vdd-Vss): 5.25V; Gain Bandwidth Product: 8GHz; Vos - Input Offset Voltage: 200uV; Input Offset Voltage Drift(Vos TC): 1.5uV/℃; Slew Rate: 2.75V/ns; Ib - Input Bias Current: 18.5uA; Input Offset Current(Ios): 100nA; Noise density(eN): 980pV/√Hz@1kHz; Common Mode Rejection Ratio(CMRR): 100dB; Quiescent Current: 17.8mA; Output Current: 105mA; Single supply: 3.3V~5.25V; Symbol: OPA855IDSGR; Device: OPA855IDSGR; LCSC Part Name: 8GHz增益带宽积、7VV稳定增益、双极输入放大器; Supplier Part: C1409030; Manufacturer Part: OPA855IDSGR; Supplier Footprint: WSON-8-EP(2x2); JLCPCB Part Class: Extended Part; Datasheet: https://www.ti.com/cn/lit/gpn/opa855; Supplier: LCSC; Convert to PCB: yes; Rail to Rail: -; Input offset current drift(Ios TC): -; Operating Temperature: -40℃~+125℃; Dual Supply: -
footprint DFN-8_L2.0-W2.0-P0.50-BL-EP
3D model DFN-8_L2.0-W2.0-H0.8-P0.50
pins: 1 FB, 2 NC, 3 IN-, 4 IN+, 5 V-, 6 VOUT, 7 V+, 8 PD#, 9 EP

## OPA2350UA/2K5
designator U?  (value not drawn)
Manufacturer: TI(德州仪器); Add into BOM: yes; Number of Channels: 双路; Gain Bandwidth Product: 38MHz; Ib - Input Bias Current: 0.5pA; Slew Rate: 22V/us; Voltage - Supply: 2.5V~5.5V; Output Current: 40mA; Quiescent Current per Amplifier: 5.2mA; Symbol: OPA2350UA/2K5; Device: OPA2350UA/2K5; LCSC Part Name: OPA2350UA/2K5; Supplier Part: C55904; Manufacturer Part: OPA2350UA/2K5; Supplier Footprint: SOIC-8; JLCPCB Part Class: Extended Part; Datasheet: https://www.ti.com/cn/lit/gpn/opa2350; Supplier: LCSC; Convert to PCB: yes; Output Type: -; Rail to Rail: -; Operating Temperature: -40℃~+85℃
footprint SOIC-8_L4.9-W3.9-P1.27-LS6.0-BL
3D model SOIC-8_L4.9-W3.9-H1.7-LS6.0-P1.27
part A pins: 5 IN B+, 6 IN B-, 7 OUT B
part B pins: 1 OUT A, 2 IN A-, 3 IN A+, 4 V-, 8 V+

## Optoisolator1
designator U?, comment EL3H7
4-Pin Phototransistor Optocoupler; Published: 24-Mar-1999; LatestRevisionDate: 04-Mar-2005; LatestRevisionNote: Sch pins 3 & 4 Swapped.; DatasheetDocument: Nov-2003; PackageReference: DIP-4; Publisher: Altium Limited
footprint DIP-4 (DIP; 4 Leads; Row Spacing 7.62 mm; Pitch 2.54 mm)
footprint SOP-4_P1.27
pins: 1 A "Anode", 2 K "Cathode", 3 E "Emitter", 4 C "Collector"

## Optoisolator1_1
designator U?, comment EL3H7
4-Pin Phototransistor Optocoupler; Published: 24-Mar-1999; LatestRevisionDate: 04-Mar-2005; LatestRevisionNote: Sch pins 3 & 4 Swapped.; DatasheetDocument: Nov-2003; PackageReference: DIP-4; Publisher: Altium Limited
footprint SOP-4_P1.27
pins: 1 A "Anode", 2 K "Cathode", 3 E "Emitter", 4 C "Collector"

## OPV300
designator *
footprint OPV300
pins: 1, 2

## Res2
designator R?, comment 1M
Resistor; Published: 8-Jun-2000; LatestRevisionDate: 17-Jul-2002; LatestRevisionNote: Re-released for DXP Platform.; PackageReference: AXIAL-0.4; Publisher: Altium Limited; Value: 1M
footprint AXIAL-0.4 (Resistor; 2 Leads)
simulation model RESISTOR (Resistor)
signal-integrity model Res
pins: 1, 2

## Res2_1
designator R?, comment 5.1k
Resistor; Published: 8-Jun-2000; LatestRevisionDate: 17-Jul-2002; LatestRevisionNote: Re-released for DXP Platform.; PackageReference: AXIAL-0.4; Publisher: Altium Limited; Value: 5.1k
footprint 0805
simulation model RESISTOR (Resistor)
signal-integrity model Res
footprint R0805
pins: 1, 2

## Res2_2
designator R?, comment 1.5k
Resistor; Value: 10k; Published: 8-Jun-2000; LatestRevisionDate: 17-Jul-2002; LatestRevisionNote: Re-released for DXP Platform.; PackageReference: AXIAL-0.4; Publisher: Altium Limited; PackageDescription: Axial Device, Thru-Hole; 2 Leads; 0.4 in Pin Spacing
footprint R0805
simulation model RESISTOR (Resistor)
signal-integrity model Res
pins: 1, 2

## Res2_3
designator R?, comment 1k
Resistor; Value: 10k; Published: 8-Jun-2000; LatestRevisionDate: 17-Jul-2002; LatestRevisionNote: Re-released for DXP Platform.; PackageReference: AXIAL-0.4; Publisher: Altium Limited; PackageDescription: Axial Device, Thru-Hole; 2 Leads; 0.4 in Pin Spacing
footprint R0805
simulation model RESISTOR (Resistor)
signal-integrity model Res
pins: 1, 2

## Res2_4
designator R?, comment 10k
Resistor; Published: 8-Jun-2000; LatestRevisionDate: 17-Jul-2002; LatestRevisionNote: Re-released for DXP Platform.; PackageReference: AXIAL-0.4; Publisher: Altium Limited; PackageDescription: Axial Device, Thru-Hole; 2 Leads; 0.4 in Pin Spacing; Value: 10k
footprint R0805
simulation model RESISTOR (Resistor)
signal-integrity model Res
pins: 1, 2

## Res Varistor
designator MOV?, comment 20D471K  (value not drawn)
Varistor (Voltage-Sensitive Resistor); Published: 24-Mar-1999; LatestRevisionDate: 04-Mar-2005; LatestRevisionNote: PCB Footprint replaced.; PackageReference: 6-0805; Publisher: Altium Limited
footprint 20D561K
footprint RES-TH
pins: 1, 2

## RN8209C
designator U?  (value not drawn)
Manufacturer: 锐能微; Add into BOM: yes; Symbol: RN8209C; Device: RN8209C; LCSC Part Name: RN8209C; Supplier Part: C80223; Manufacturer Part: RN8209C; Supplier Footprint: SOIC-16; JLCPCB Part Class: Extended Part; Datasheet: https://atta.szlcsc.com/upload/public/pdf/source/20230411/937CDC71CB16BEA8FBD0894A21FA2789.pdf; Supplier: LCSC; Convert to PCB: yes
footprint SOIC-16_L9.9-W3.9-P1.27-LS6.0-BL
3D model SOIC-16_L9.9-W3.9-H1.8-LS6.0-P1.27
pins: 1 OSCO, 2 RF, 3 QF, 4 AVDD, 5 V1P, 6 V1N, 7 V2P, 8 V2N, 9 V3P, 10 V3N, 11 REFV, 12 TX, 13 RX/RST_N, 14 GND, 15 DVDD, 16 OSCI

## RN8209C_1
designator U?, comment RN8209C  (value not drawn)
Manufacturer: 锐能微; Add into BOM: yes; Symbol: RN8209C; Device: RN8209C; LCSC Part Name: RN8209C; Supplier Part: C80223; Manufacturer Part: RN8209C; Supplier Footprint: SOIC-16; JLCPCB Part Class: Extended Part; Datasheet: https://atta.szlcsc.com/upload/public/pdf/source/20230411/937CDC71CB16BEA8FBD0894A21FA2789.pdf; Supplier: LCSC; Convert to PCB: yes
footprint SOIC-16_L9.9-W3.9-P1.27-LS6.0-BL
3D model SOIC-16_L9.9-W3.9-H1.8-LS6.0-P1.27
pins: 1 OSCO, 2 RF, 3 QF, 4 AVDD, 5 V1P, 6 V1N, 7 V2P, 8 V2N, 9 V3P, 10 V3N, 11 REFV, 12 TX, 13 RX/RST_N, 14 GND, 15 DVDD, 16 OSCI

## screwhole-3_5mm_8via_1
designator PE?, comment M3.4  (value not drawn)
螺丝孔3.4mm; Part Number: 4000374; Mount Option: Do Not Mount; Right: 30; Device_class: discrete; code: NULL; Remark: 螺丝孔; Bottom: 30; Part Type: H
footprint PE
footprint PE
footprint PE - duplicate
pins: 1

## SFH 213
designator U?
Manufacturer: OSRAM(欧司朗); Add into BOM: yes; DC Reverse Voltage: 50V; Peak  Wavelength: 850nm; Spectral Range: 400nm~1100nm; Current Dark: 1nA; Symbol: SFH 213; Device: SFH 213; LCSC Part Name: 光电二极管; Supplier Part: C2900210; Manufacturer Part: SFH 213; Supplier Footprint: 插件; JLCPCB Part Class: Extended Part; Supplier: LCSC; Convert to PCB: yes; Reception Angle: -; Operating Temperature: -40℃~+100℃
footprint LED-TH_BD5.8-P2.54-RD
3D model LED-TH_BD5.8-H8.6-P2.54
pins: 1 K, 2 A

## SGM2212-3.3XKC3G/TR_C3294699
designator U?, comment SGM2212-3.3XKC3G/TR  (value not drawn)
Manufacturer: SGMICRO(圣邦微); Symbol: SGM2212-3.3XKC3G/TR_C3294699; Add into BOM: yes; Output Type: 固定; Voltage - Supply: 20V; Output Voltage: 3.3V; Output Current: 800mA; Power Supply Rejection Ratio (PSRR): 80dB@(120Hz); Voltage Dropout: 450mV@(800mA); standby current: 80uA; Noise: 0.002%Vout; Device: SGM2212-3.3XKC3G/TR_C3294699; LCSC Part Name: SGM2212-3.3XKC3G/TR; Supplier Part: C3294699; Manufacturer Part: SGM2212-3.3XKC3G/TR; Supplier Footprint: SOT-223-3; JLCPCB Part Class: Extended Part; Datasheet: https://item.szlcsc.com/datasheet/SGM2212-3.3XKC3G%252FTR/3859121.html; Supplier: LCSC; Convert to PCB: yes; Features: 短路保护；热关断; Operating Temperature: -40℃~+125℃
footprint SOT-223-3_L6.5-W3.4-P2.30-LS7.0-BR
3D model SOT-223-4P_L6.5-W3.5-H1.6-LS7.0-P2.30
pins: 1 GND, 2 VOUT, 3 VIN, 4 VOUT

## SK6812MINI-HS
designator U?  (value not drawn)
Manufacturer: 欧思科光电; Add into BOM: yes; Wavelength: R:620nm~625nm；B:465nm~475nm；G:520nm~530nm; Luminous Intensity: R:200mcd~385mcd；B:160mcd~320mcd；G:815mcd~1275mcd; Fixed-Frequency Pwm Mode: 1kHz; Data Transmission Rate: 800Kbit/s; Voltage - Supply: 3.7V~5.5V; Quiescent Current: 0.6mA; Lens Color: 半透明透镜; ESD Withstand Voltage: 2000V; Viewing Angle: 120°; Symbol: SK6812MINI-HS; Device: SK6812MINI-HS; LCSC Part Name: SK6812MINI-HS; Supplier Part: C2922787; Manufacturer Part: SK6812MINI-HS; Supplier Footprint: SMD,3.5x3.7mm; JLCPCB Part Class: Extended Part; Datasheet: https://item.szlcsc.com/datasheet/SK6812MINI-HS/3234155.html; Supplier: LCSC; Convert to PCB: yes; Operating Temperature: -40℃~+85℃; Length: 3.7mm; Width: 1.95mm; Height: 3.5mm
footprint LED-SMD_4P-L3.5-W3.5-BR_SK6812MINI-HS
3D model LED-SMD_4P-L3.5-W3.5-BR_SK6812MINI-HS
pins: 1 GND, 2 DIN, 3 VDD, 4 DOUT

## SOT-23 SS8050 Y1
designator Q?, comment SS8050 Y1
三极管; ComponentLink1Description: 供应商链接; ComponentLink1URL: http://www.szlcsc.com/product/details_2507.html; Package: SOT-23; Supplier: LC; SuppliersPartNumber: C2150
footprint SOT-23(SOT-23-3)
pins: 1 B, 2 E, 3 C

## TP
designator TP?  (value not drawn)
footprint TP
pins: 1

## TR2145CI
designator T?
footprint TR2145CI
pins: 1 NC, 2 NC, 3 S1, 4 S2
text: AC; DC

## TR3121CH_3
designator T?, comment TR3121CI
PCB Footprint: VT20x17
footprint VT20x17
pins: 1 P1, 2 P2, 3 S1, 4 S2
text: AC; DC

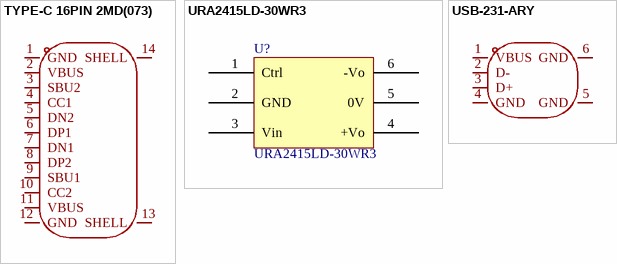
[diagram p2: symbols TYPE-C 16PIN 2MD(073) to USB-231-ARY]

## TYPE-C 16PIN 2MD(073)
designator USB?  (value not drawn)
Manufacturer: SHOU HAN(首韩); Add into BOM: yes; Gender: 母; Number of Contacts: 16P; Number of Ports: 1; Current Rating-Power: 3A; Voltage Rating: 5V; Connect-Disconnect Life: 5千次; Detection color: 黑色; Symbol: TYPE-C 16PIN 2MD(073); Device: TYPE-C 16PIN 2MD(073); LCSC Part Name: Type-C 母 卧贴; Supplier Part: C2765186; Manufacturer Part: TYPE-C 16PIN 2MD(073); Supplier Footprint: SMD; JLCPCB Part Class: Extended Part; Datasheet: https://item.szlcsc.com/datasheet/TYPE-C%252016PIN%25202MD(073)/2901843.html; Supplier: LCSC; Convert to PCB: yes; Connector Type: Type-C; Protocol Standard: -; Mounting Type: 卧贴; Supplementary Features: -; Center Height: -; Length: -; Operating Temperature: -25℃~+85℃
footprint USB-C-SMD_TYPE-C-6PIN-2MD-073
3D model USB-C-SMD_TYPE-C-6PIN-2MD-073
pins: 1 GND, 2 VBUS, 3 SBU2, 4 CC1, 5 DN2, 6 DP1, 7 DN1, 8 DP2, 9 SBU1, 10 CC2, 11 VBUS, 12 GND, 13 SHELL, 14 SHELL

## URA2415LD-30WR3
designator U?
footprint URA_LD
pins: 1 Ctrl, 2 GND, 3 Vin, 4 +Vo, 5 0V, 6 -Vo

## USB-231-ARY
designator USB?  (value not drawn)
Manufacturer: XUNPU(讯普); Add into BOM: yes; Connector Type: Type-A; Protocol Standard: USB 2.0; Gender: 母; Number of Contacts: 4P; Number of Ports: 1; Current Rating-Power: 1.5A; Voltage Rating: 30V; Detection color: 白色; Symbol: USB-231-ARY; Device: USB-231-ARY; LCSC Part Name: Type-A 母 弯插; Supplier Part: C720525; Manufacturer Part: USB-231-ARY; Supplier Footprint: 弯插; JLCPCB Part Class: Extended Part; Datasheet: https://item.szlcsc.com/datasheet/USB-231-ARY/763532.html; Supplier: LCSC; Convert to PCB: yes; Mounting Type: 弯插; Length: 14.2mm; Operating Temperature: -20℃~+70℃
footprint USB-A-TH_USB-231-ARY
3D model USB-A-TH_USB-231-ARY
pins: 1 VBUS, 2 D-, 3 D+, 4 GND, 5 GND, 6 GND